# Altium schematic symbol library SCH - MCU - ATTINY - MICROCHIP ATTINY861-20MU MLF32.SchLib: 1 symbol
Pins are listed as number, name and electrical type; pins without a type are passive.

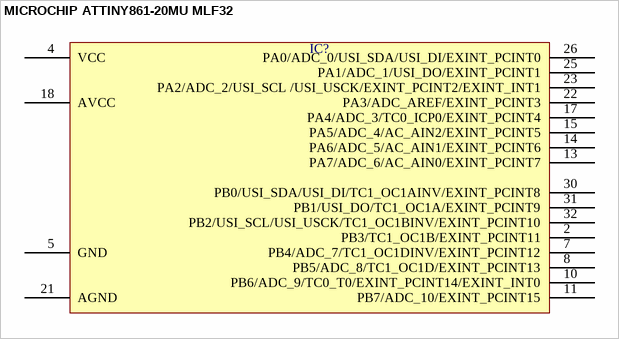
[diagram p0: symbol MICROCHIP ATTINY861-20MU MLF32]

## MICROCHIP ATTINY861-20MU MLF32
designator IC?  (value not drawn)
pins: 2 PB3/TC1_OC1B/EXINT_PCINT11, 4 VCC, 5 GND, 7 PB4/ADC_7/TC1_OC1DINV/EXINT_PCINT12, 8 PB5/ADC_8/TC1_OC1D/EXINT_PCINT13, 10 PB6/ADC_9/TC0_T0/EXINT_PCINT14/EXINT_INT0, 11 PB7/ADC_10/EXINT_PCINT15, 13 PA7/ADC_6/AC_AIN0/EXINT_PCINT7, 14 PA6/ADC_5/AC_AIN1/EXINT_PCINT6, 15 PA5/ADC_4/AC_AIN2/EXINT_PCINT5, 17 PA4/ADC_3/TC0_ICP0/EXINT_PCINT4, 18 AVCC, 21 AGND, 22 PA3/ADC_AREF/EXINT_PCINT3, 23 PA2/ADC_2/USI_SCL /USI_USCK/EXINT_PCINT2/EXINT_INT1, 25 PA1/ADC_1/USI_DO/EXINT_PCINT1, 26 PA0/ADC_0/USI_SDA/USI_DI/EXINT_PCINT0, 30 PB0/USI_SDA/USI_DI/TC1_OC1AINV/EXINT_PCINT8, 31 PB1/USI_DO/TC1_OC1A/EXINT_PCINT9, 32 PB2/USI_SCL/USI_USCK/TC1_OC1BINV/EXINT_PCINT10